# Altium footprint library Weapon_of_Aphelios.PcbLib: 17 footprints (part 1 of 2)
Each footprint in its own frame and in the unit in brackets; x right, y up, seen from the top. Pads: shape width x height; smd on the part's side, far side on the other; paste and mask are expansions set on the pad; w line width, h text height; cw(c..) or ccw(c..) is an arc to the next point about the centre after c.
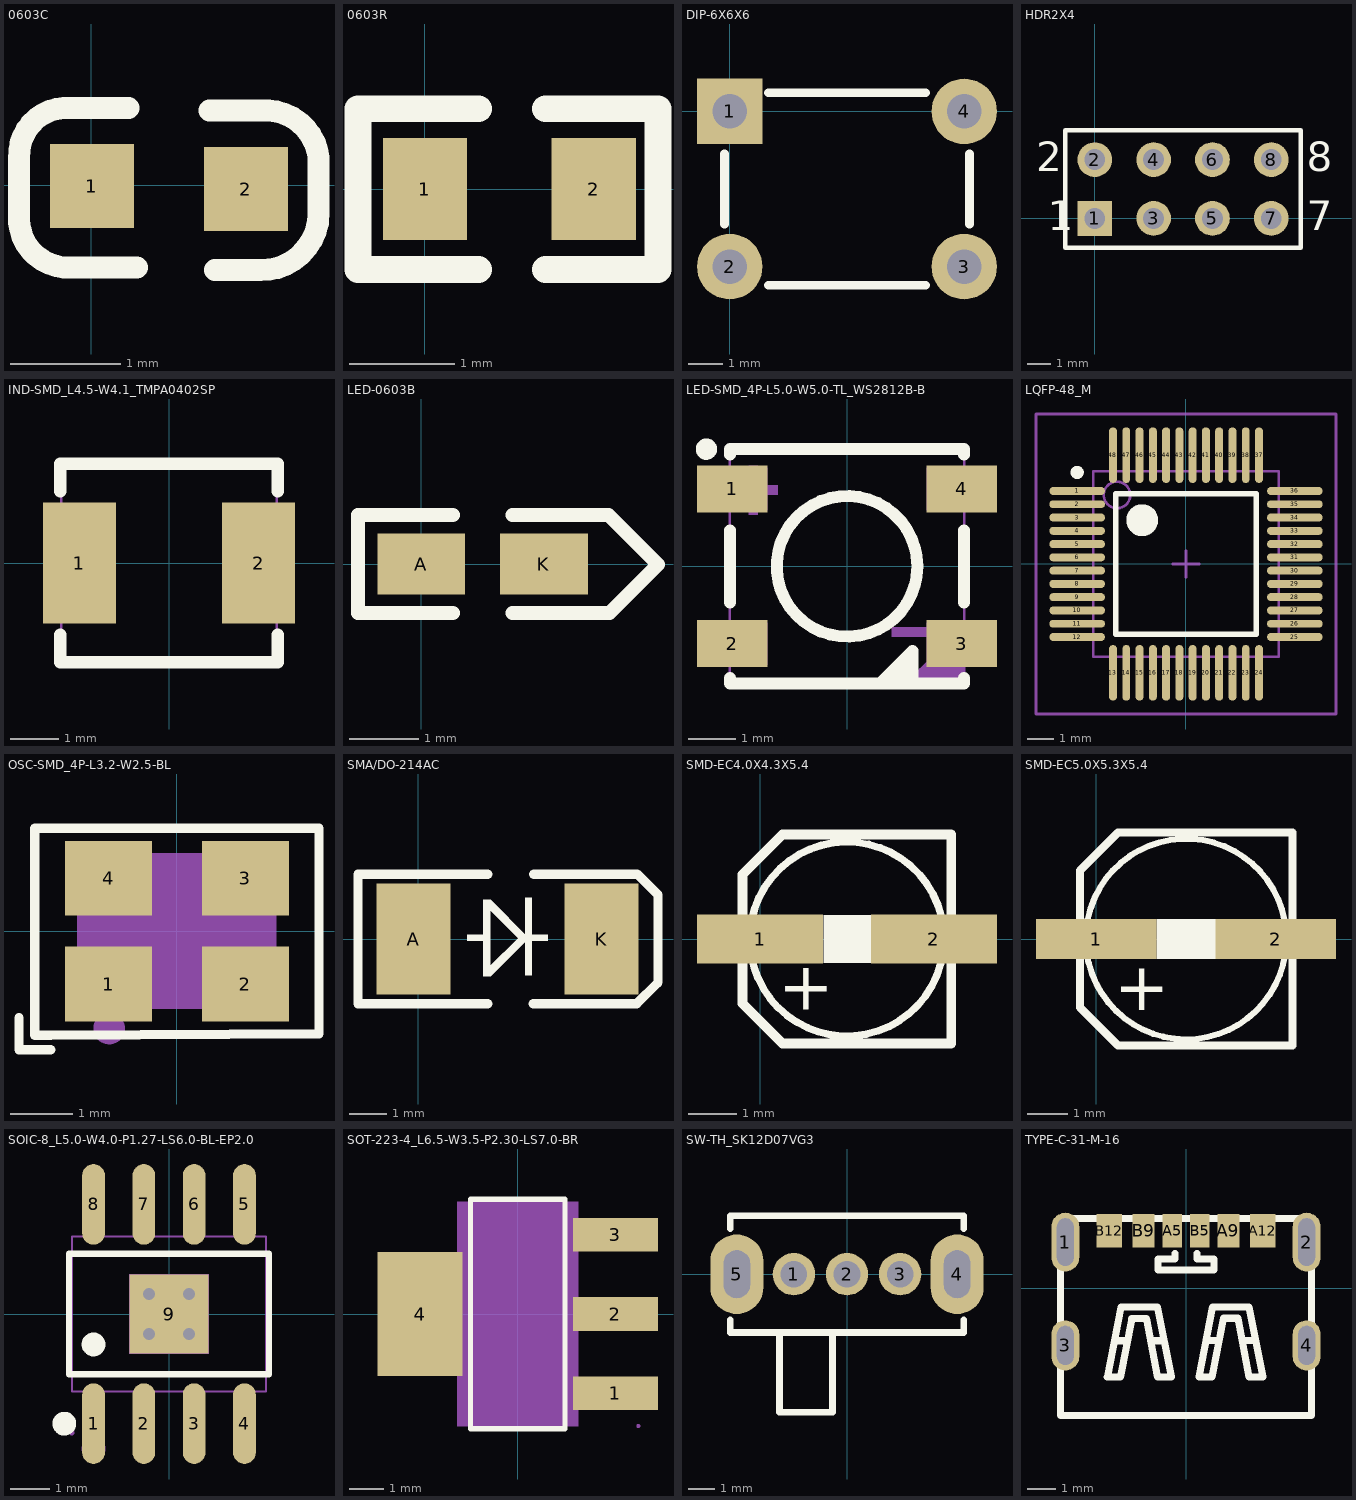
[diagram p0: the footprints below, top view; thin cyan lines are the x and y axes]

## 0603C [mil]
pads (2):
  rect 30x30 smd: 1(0.21,-0.35) 2(55.21,-1.35)
Top Overlay:
  lines w7.87: 13.21,27.65 -9.79,27.65 ccw(c-8.79,10.65) -25.79,9.65 -25.79,-10.35 ccw(c-8.29,-11.85) -9.79,-29.35 16.21,-29.35 ; 42.21,26.65 60.21,26.65 cw(c62.21,7.65) 81.21,9.65 81.21,-10.35 cw(c60.71,-9.85) 60.21,-30.35 44.21,-30.35
3D body "0603 SMD Capacitor.STEP": height 11.89, standoff 0, extent -1.49,-14.99 61.5,16.5

## 0603R [mm]
pads (2):
  rect 0.8x0.965 smd: 1(0,0) 2(1.6,0)
Top Overlay:
  lines w0.254: 0.508,-0.762 -0.635,-0.762 -0.635,0.762 0.508,0.762 ; 1.143,-0.762 2.21,-0.762 2.21,0.762 1.143,0.762
3D body "RES0603.STEP": height 0.45, standoff 0, extent -0.038,-0.41 1.562,0.41

## DIP-6X6X6 [mm]
pads (4):
  rect 1.9x1.9 hole 1: 1(0,0)
  round 1.9 hole 1: 2(0,-4.5) 3(6.8,-4.5) 4(6.8,0)
Top Overlay:
  lines w0.254: -0.156,-3.266 -0.156,-1.234 ; 1.114,-5.044 5.686,-5.044 ; 1.114,0.544 5.686,0.544 ; 6.956,-3.266 6.956,-1.234
3D body "DIP-6X6X6.STEP": height 5.95, standoff -3.45, extent -0.677,-5.238 7.535,0.762

## HDR2X4 [mm]
pads (8):
  rect 1.5x1.5 hole 0.9: 1(0,0)
  round 1.5 hole 0.9: 2(0,2.54) 3(2.54,0) 4(2.54,2.54) 5(5.08,0) 6(5.08,2.54) 7(7.62,0) 8(7.62,2.54)
Top Overlay:
  lines w0.2: -1.27,-1.27 8.89,-1.27 8.89,3.81 -1.27,3.81 -1.27,-1.27
  text "2" at -2.54,2.032 h1.27
  text "1" at -2.032,-0.508 h1.27
  text "7" at 9.144,-0.508 h1.27
  text "8" at 9.144,2.032 h1.27

## IND-SMD_L4.5-W4.1_TMPA0402SP [mm]
pads (2):
  rect 1.5x2.5 smd mask+0.051: 1(-1.85,0) 2(1.85,0)
Top Overlay:
  lines w0.254: -2.25,-1.481 -2.25,-2.05 2.25,-2.05 2.25,-1.481 ; -2.25,1.481 -2.25,2.05 2.25,2.05 2.25,1.481
Mechanical 15:
  region: -2.17,-2.03 -2.17,-2.005 -2.205,-1.97 -2.255,-1.97 -2.29,-2.005 -2.29,-2.03 -2.29,-2.055 -2.255,-2.09 -2.205,-2.09 -2.17,-2.055 -2.17,-2.03
  region: 2.225,1 2.225,-1 1.465,-1 1.465,1
  region: -1.47,1 -1.47,-1 -2.23,-1 -2.23,1
  lines w0.051: -2.225,-2.03 2.225,-2.03 2.225,2.03 -2.225,2.03 -2.225,-2.03

## LED-0603B [mil]
pads (2):
  rect 50x35 smd: A(0,0.26) K(70,0.26)
Top Overlay:
  lines w8: 18,-27.74 -36,-27.74 -36,-25.74 -36,28.26 -35,28.26 18,28.26 ; 52,-27.74 107.26,-27.74 135,0 106.74,28.26 106,28.26 52,28.26
3D body "18.STEP": height 23.82, standoff -0.04, extent 3.5,-15 66.5,16.58

## LED-SMD_4P-L5.0-W5.0-TL_WS2812B-B [mm]
pads (4):
  rect 1.5x1 smd mask+0.051: 1(-2.45,1.65) 2(-2.45,-1.65) 3(2.45,-1.65) 4(2.45,1.65)
Top Overlay:
  circle w0.254: c-3,2.5 r0.1
  circle w0.254: c0.001,0 r1.5
  region: 1.4,-1.8 1.4,-2.4 1.3,-2.5 0.7,-2.5
  lines w0.254: -2.5,-2.38 -2.5,-2.5 2.5,-2.5 2.5,-2.38 ; -2.5,-0.77 -2.5,0.77 ; -2.5,2.38 -2.5,2.5 2.5,2.5 2.5,2.38 ; 2.5,-0.77 2.5,0.77 ; 0.7,-2.5 1.4,-1.8 1.4,-2.5 0.7,-2.5
Mechanical 6:
  circle w0.24: c-2.8,1.9 r0.12
  region: -2.1,1.1 -2.1,2.15 -1.9,2.15 -1.9,1.1
  region: 2,-1.5 0.95,-1.5 0.95,-1.3 2,-1.3
  region: -2.525,1.725 -1.475,1.725 -1.475,1.525 -2.525,1.525
  region: 2.5,-1.3 2.5,-2.5 1.2,-2.5
Mechanical 15:
  region: -2.704,2.1 -1.704,2.1 -1.704,1.2 -2.704,1.2
  region: -2.704,-1.2 -1.704,-1.2 -1.704,-2.1 -2.704,-2.1
  region: 2.704,-2.1 1.704,-2.1 1.704,-1.2 2.704,-1.2
  region: 2.704,1.2 1.704,1.2 1.704,2.1 2.704,2.1
  lines w0.051: -2.5,-2.5 -2.5,2.5 2.5,2.5 2.5,-2.5 -2.5,-2.5
3D body "User Library-ws2812B-1.STEP": height 1.57, standoff 0, extent -2.7,-2.5 2.7,2.5

## LQFP-48_M [mm]
pads (48):
  oval 2.1x0.3 smd: 1(-4.1,2.75) 2(-4.1,2.25) 3(-4.1,1.75) 4(-4.1,1.25) 5(-4.1,0.75) 6(-4.1,0.25) 7(-4.1,-0.25) 8(-4.1,-0.75) 9(-4.1,-1.25) 10(-4.1,-1.75) 11(-4.1,-2.25) 12(-4.1,-2.75) 25(4.1,-2.75) 26(4.1,-2.25) 27(4.1,-1.75) 28(4.1,-1.25) 29(4.1,-0.75) 30(4.1,-0.25) 31(4.1,0.25) 32(4.1,0.75) 33(4.1,1.25) 34(4.1,1.75) 35(4.1,2.25) 36(4.1,2.75)
  oval 0.3x2.1 smd: 13(-2.75,-4.1) 14(-2.25,-4.1) 15(-1.75,-4.1) 16(-1.25,-4.1) 17(-0.75,-4.1) 18(-0.25,-4.1) 19(0.25,-4.1) 20(0.75,-4.1) 21(1.25,-4.1) 22(1.75,-4.1) 23(2.25,-4.1) 24(2.75,-4.1) 37(2.75,4.1) 38(2.25,4.1) 39(1.75,4.1) 40(1.25,4.1) 41(0.75,4.1) 42(0.25,4.1) 43(-0.25,4.1) 44(-0.75,4.1) 45(-1.25,4.1) 46(-1.75,4.1) 47(-2.25,4.1) 48(-2.75,4.1)
Top Overlay:
  circle w0.25: c-4.1,3.45 r0.125
  circle w0.6: c-1.65,1.65 r0.3
  lines w0.2: -2.65,-2.65 -2.65,2.65 2.65,2.65 2.65,-2.65 -2.65,-2.65
Mechanical 13:
  circle w0.1: c-2.6,2.6 r0.5
  lines w0.1: -3.5,-3.5 -3.5,3.5 3.5,3.5 3.5,-3.5 -3.5,-3.5
Mechanical 15:
  lines w0.1: -0.5,0 0.5,0 ; 0,-0.5 0,0.5 ; -5.65,-5.65 -5.65,5.65 5.65,5.65 5.65,-5.65 -5.65,-5.65
3D body: height 1.6, standoff 0, extent -3.5,-3.5 3.5,3.5

## OSC-SMD_4P-L3.2-W2.5-BL [mm]
pads (4):
  rect 1.4x1.2 smd: 1(-1.1,-0.851) 2(1.1,-0.851) 3(1.1,0.851) 4(-1.1,0.851)
Top Overlay:
  lines w0.152: -2.54,-1.397 -2.54,-1.905 -2.032,-1.905 ; -2.286,-1.679 -2.029,-1.679 2.286,-1.651 2.286,0 2.286,1.651 -2.286,1.651 -2.286,-1.679
Mechanical 4:
  region: -1.6,-1.25 -1.6,1.25 1.6,1.25 1.6,-1.25
Mechanical 5:
  region: 0.6,1.15 1.5,1.15 1.5,0.35 0.6,0.35
  region: -1.5,1.15 -0.6,1.15 -0.6,0.35 -1.5,0.35
  region: -1.5,-0.35 -0.6,-0.35 -0.6,-1.15 -1.5,-1.15
  region: 0.6,-0.35 1.5,-0.35 1.5,-1.15 0.6,-1.15
Mechanical 6:
  circle w0.1: c-1.6,-1.25 r0.05
Mechanical 15:
  circle w0.254: c-1.088,-1.567 r0.127
  region: -1.486,-0.428 -1.45,-0.428 -1.45,-1.004 -1.486,-1.004
  region: -1.522,-0.428 -1.486,-0.428 -1.486,-1.004 -1.522,-1.004
  region: -1.558,-0.428 -1.522,-0.428 -1.522,-1.004 -1.558,-1.004
  region: -1.594,-0.464 -1.558,-0.464 -1.558,-1.004 -1.594,-1.004
  region: -1.63,-0.464 -1.594,-0.464 -1.594,-0.572 -1.63,-0.572
  region: -1.666,-0.5 -1.63,-0.5 -1.63,-0.608 -1.666,-0.608
  region: -1.702,-0.536 -1.666,-0.536 -1.666,-0.608 -1.702,-0.608
  region: -1.738,-0.536 -1.702,-0.536 -1.702,-0.608 -1.738,-0.608

## SMA/DO-214AC [mm]
pads (2):
  rect 2x3 smd: A(-0.127,0) K(4.953,0)
Top Overlay:
  region: 3.505,-0.051 3.505,0.127 3.023,0.127 3.023,-0.051
  region: 2.808,-0.091 2.961,0.062 1.956,1.067 1.803,0.914
  region: 1.778,-0.051 1.778,0.127 1.321,0.127 1.321,-0.051
  rectangle: 2.883,-0.991 3.073,1.118
  rectangle: 1.753,-1.016 1.956,1.067
  region: 2.962,-0.012 2.809,0.141 1.804,-0.864 1.957,-1.017
  lines w0.254: 1.873,-1.75 -1.627,-1.75 -1.627,1.75 1.873,1.75 ; 3.103,-1.753 3.105,-1.75 5.668,-1.75 5.899,-1.75 6.456,-1.194 6.477,-1.172 6.477,1.194 5.921,1.75 5.69,1.75 3.127,1.75 3.124,1.753
3D body "DO-214AC.STEP": height 2.4, standoff 0, extent 0.113,-1.35 4.713,1.35

## SMD-EC4.0X4.3X5.4 [mm]
pads (2):
  rect 2.6x1 smd: 1(0,0) 2(3.579,0)
Top Overlay:
  rectangle: 1.302,-0.499 2.279,0.5
  lines w0.152: 3.561,0.924 ccw(c1.787,0) 3.562,0.921
  lines w0.203: 3.936,2.151 0.461,2.151 -0.364,1.325 -0.364,-1.324 0.461,-2.15 3.937,-2.15 3.937,2.15
  text "+" at 0.37,-1.46 h1
3D body "ALU-B_4.0x4.3x5.4.STEP": height 5.4, standoff 0, extent -0.522,-2.15 4.078,2.15

## SMD-EC5.0X5.3X5.4 [mm]
pads (2):
  rect 3x1 smd: 1(0,0) 2(4.477,0)
Top Overlay:
  rectangle: 1.5,-0.5 2.981,0.5
  lines w0.152: 4.412,1.239 ccw(c2.241,0) 4.415,1.235
  lines w0.203: 0.217,-2.33 -0.407,-1.706 ; 4.89,2.656 0.542,2.656 0.541,2.655 -0.407,1.707 -0.407,-1.706 ; 4.891,-2.654 0.542,-2.654 0.542,-2.654 -0.407,-1.706 ; 4.892,-2.654 4.892,2.654
  text "+" at 0.445,-1.777 h1.2
3D body "ALU-C_5.0x5.3x5.4.STEP": height 5.41, standoff 0, extent -0.791,-2.65 5.109,2.65

## SOIC-8_L5.0-W4.0-P1.27-LS6.0-BL-EP2.0 [mil]
pads (9):
  oval 22.6x80.2 smd mask+2: 1(-75,-109) 2(-25,-109) 3(25,-109) 4(75,-109) 5(75,109) 6(25,109) 7(-25,109) 8(-75,109)
  rect 78.7x78.7 smd mask+2: 9(0,0)
via 19.7,19.7 diameter 24 hole 12
via -19.7,19.7 diameter 24 hole 12
via -19.7,-19.7 diameter 24 hole 12
via 19.7,-19.7 diameter 24 hole 12
Top Overlay:
  circle w11.8: c-75,-30.3 r5.9
  circle w11.8: c-104.1,-109 r5.9
  lines w6: -99.5,-59.9 -99.5,59.9 99.5,59.9 99.5,-59.9 -99.5,-59.9
Mechanical 6:
  circle w11.8: c-75,-133.9 r5.9
Mechanical 15:
  region: -94.1,-118.1 -94.1,-117.11 -95.51,-115.7 -97.49,-115.7 -98.9,-117.11 -98.9,-118.1 -98.9,-119.09 -97.49,-120.5 -95.51,-120.5 -94.1,-119.09 -94.1,-118.1
  region: -83.1,-118.1 -83.1,-85.2 -66.9,-85.2 -66.9,-118.1
  region: -83.1,-85.6 -83.1,-76.4 -66.9,-76.4 -66.9,-85.6
  region: -33.1,-118.1 -33.1,-85.2 -16.9,-85.2 -16.9,-118.1
  region: -33.1,-85.6 -33.1,-76.4 -16.9,-76.4 -16.9,-85.6
  region: 16.9,-118.1 16.9,-85.2 33.1,-85.2 33.1,-118.1
  region: 16.9,-85.6 16.9,-76.4 33.1,-76.4 33.1,-85.6
  region: 66.9,-118.1 66.9,-85.2 83.1,-85.2 83.1,-118.1
  region: 66.9,-85.6 66.9,-76.4 83.1,-76.4 83.1,-85.6
  region: -83.1,118.1 -83.1,85.2 -66.9,85.2 -66.9,118.1
  region: -83.1,85.6 -83.1,76.4 -66.9,76.4 -66.9,85.6
  region: -33.1,118.1 -33.1,85.2 -16.9,85.2 -16.9,118.1
  region: -33.1,85.6 -33.1,76.4 -16.9,76.4 -16.9,85.6
  region: 16.9,118.1 16.9,85.2 33.1,85.2 33.1,118.1
  region: 16.9,85.6 16.9,76.4 33.1,76.4 33.1,85.6
  region: 66.9,118.1 66.9,85.2 83.1,85.2 83.1,118.1
  region: 66.9,85.6 66.9,76.4 83.1,76.4 83.1,85.6
  region: -39.4,-39.4 -39.4,39.4 39.4,39.4 39.4,-39.4
  lines w2: -96.5,-76.8 -96.5,76.8 96.5,76.8 96.5,-76.8 -96.5,-76.8

## SOT-223-4_L6.5-W3.5-P2.30-LS7.0-BR [mm]
pads (4):
  rect 2.47x0.98 smd: 1(2.835,-2.3) 2(2.835,0) 3(2.835,2.3)
  rect 2.47x3.6 smd: 4(-2.835,0)
Top Overlay:
  lines w0.152: -1.371,-3.326 -1.371,3.326 1.371,3.326 1.371,-3.326 -1.371,-3.326
Mechanical 4:
  region: -1.75,-3.25 -1.75,3.25 1.75,3.25 1.75,-3.25
Mechanical 5:
  region: 2.55,-2.65 2.55,-1.95 3.5,-1.95 3.5,-2.65
  pour cut-out: 1.74,-2.65 1.74,-1.95 2.56,-1.95 2.56,-2.65
  region: 2.55,-0.35 2.55,0.35 3.5,0.35 3.5,-0.35
  pour cut-out: 1.74,-0.35 1.74,0.35 2.56,0.35 2.56,-0.35
  region: 2.55,1.95 2.55,2.65 3.5,2.65 3.5,1.95
  pour cut-out: 1.74,1.95 1.74,2.65 2.56,2.65 2.56,1.95
  region: -2.55,-1.5 -2.55,1.5 -3.5,1.5 -3.5,-1.5
  pour cut-out: -2.56,-1.5 -2.56,1.5 -1.74,1.5 -1.74,-1.5
Mechanical 6:
  circle w0.06: c3.5,-3.25 r0.03

## SW-TH_SK12D07VG3 [mm]
pads (5):
  round 1.6 hole 1: 1(-2,0) 2(0,0) 3(2,0)
  oval 2x3 hole 1 slot 1.8 at 90 deg: 4(4.15,0) 5(-4.15,0)
Top Overlay:
  lines w0.254: -4.4,-1.715 -4.4,-2.2 4.4,-2.2 4.4,-1.715 ; -4.4,1.715 -4.4,2.2 4.4,2.2 4.4,1.715 ; -2.543,-2.2 -2.543,-5.2 -0.543,-5.2 -0.543,-2.2

## TYPE-C-31-M-16 [mm]
pads (10):
  oval 1x2.1 hole 0.6 slot 1.7 at 90 deg: 1(-4.32,1.65) 2(4.32,1.65)
  oval 1x1.8 hole 0.6 slot 1.4 at 90 deg: 3(-4.32,-2.05) 4(4.32,-2.05)
  rect 0.7x1.2 smd: A5(-0.5,2.05) B5(0.5,2.05)
  rect 0.8x1.2 smd: A9(1.52,2.05) B9(-1.52,2.05)
  rect 0.9x1.2 smd: A12(2.75,2.05) B12(-2.75,2.05)
Top Overlay:
  lines w0.25: -4.5,-4.55 4.5,-4.55 ; -4.5,-4.5 -4.5,2.49 2.794,2.489 4.5,2.49 4.5,-4.5 ; -1.01,0.65 1.01,0.65 ; -1,0.65 -1,1.05 -0.4,1.05 -0.4,1.25 ; 0.4,1.25 0.4,1.05 1,1.05 1,0.65
  lines w0.254: -2.518,-1.883 -2.119,-1.883 ; -1.219,-1.882 -0.819,-1.882 ; 0.759,-1.878 1.158,-1.878 ; 2.058,-1.877 2.458,-1.877 ; -2.818,-3.183 -2.32,-0.681 -1.019,-0.681 -0.519,-3.183 -1.014,-3.183 -1.413,-1.083 -1.941,-1.083 -2.343,-3.183 -2.818,-3.183 ; 0.459,-3.178 0.957,-0.676 2.257,-0.676 2.758,-3.178 2.263,-3.178 1.864,-1.078 1.335,-1.078 0.934,-3.178 0.459,-3.178